# EAGLE library part SI114* (library silabs)
PROXIMITY/UV/AMBIENT LIGHT SENSOR IC WITH I2C INTERFACE Source: http://www.silabs.com/Support%20Documents/TechnicalDocs/Si1145-46-47.pdf
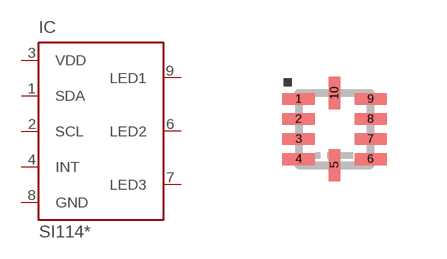
[diagram p0: symbol with the pads of QFN-10; footprint QFN-10]

Designator prefix IC

## SI1145, SI1146, SI1147  [QFN-10]
1  SDA
2  SCL  in
3  VDD  pwr
4  INT  oc
6  LED2  out
7  LED3  out
8  GND  pwr
9  LED1  out

## Footprint QFN-10 (pad centres in mm)
10-Pin QFN Source: http://www.silabs.com/Support%20Documents/TechnicalDocs/Si1145-46-47.pdf
smd 0.8 x 0.3: 1 -0.9,0.75; 2 -0.9,0.25; 3 -0.9,-0.25; 4 -0.9,-0.75; 6 0.9,-0.75; 7 0.9,-0.25; 8 0.9,0.25; 9 0.9,0.75
smd 0.3 x 0.8: 5 0,-0.9; 10 0,0.9